# Altium schematic symbol library goldpin.SchLib: 6 symbols
Pins are listed as number, name and electrical type; pins without a type are passive.

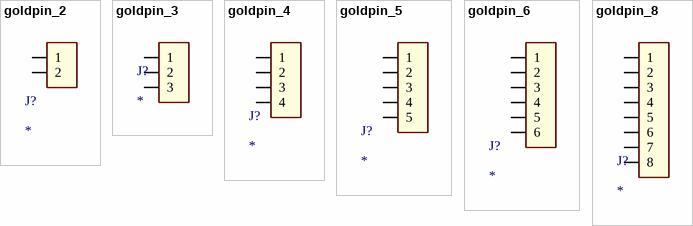
[diagram p0: symbols goldpin_2 to goldpin_8]

## goldpin_2
designator J?
footprint goldpin2
footprint goldpin2
pins: 1, 2

## goldpin_3
designator J?
footprint goldpin3
pins: 1, 2, 3

## goldpin_4
designator J?
footprint goldpin4
pins: 1, 2, 3, 4

## goldpin_5
designator J?
footprint goldpin5
pins: 1, 2, 3, 4, 5

## goldpin_6
designator J?
footprint goldpin6
pins: 1, 2, 3, 4, 5, 6

## goldpin_8
designator J?
footprint goldpin8
pins: 1, 2, 3, 4, 5, 6, 7, 8